# EAGLE library part USERPORT (library crasbe)
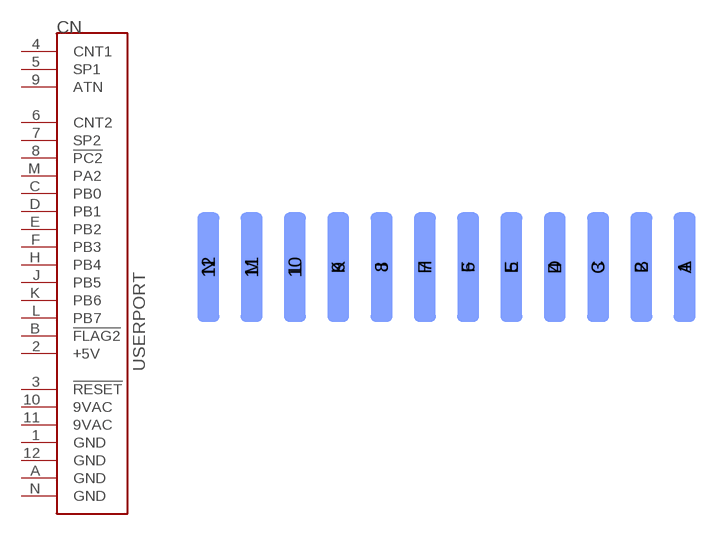
[diagram p16: symbol with the pads of USERPORT; footprint USERPORT]

Designator prefix CN

## USERPORT  [USERPORT]
1  GND  pwr
2  +5V  pwr
3  !RESET
4  CNT1
5  SP1
6  CNT2
7  SP2
8  !PC2
9  ATN
10  9VAC  pwr
11  9VAC  pwr
12  GND  pwr
A  GND  pwr
B  !FLAG2
C  PB0
D  PB1
E  PB2
F  PB3
H  PB4
J  PB5
K  PB6
L  PB7
M  PA2
N  GND  pwr

## Footprint USERPORT (pad centres in mm)
smd 2 x 10: 1 21.78,3.96; 2 17.82,3.96; 3 13.86,3.96; 4 9.9,3.96; 5 5.94,3.96; 6 1.98,3.96; 7 -1.98,3.96; 8 -5.94,3.96; 9 -9.9,3.96; 10 -13.86,3.96; 11 -17.82,3.96; 12 -21.78,3.96
smd 2 x 10 bottom: A 21.78,3.96; B 17.82,3.96; C 13.86,3.96; D 9.9,3.96; E 5.94,3.96; F 1.98,3.96; H -1.98,3.96; J -5.94,3.96; K -9.9,3.96; L -13.86,3.96; M -17.82,3.96; N -21.78,3.96